# Altium schematic symbol library SL_Connectors.SchLib: 25 symbols
Pins are listed as number, name and electrical type; pins without a type are passive.

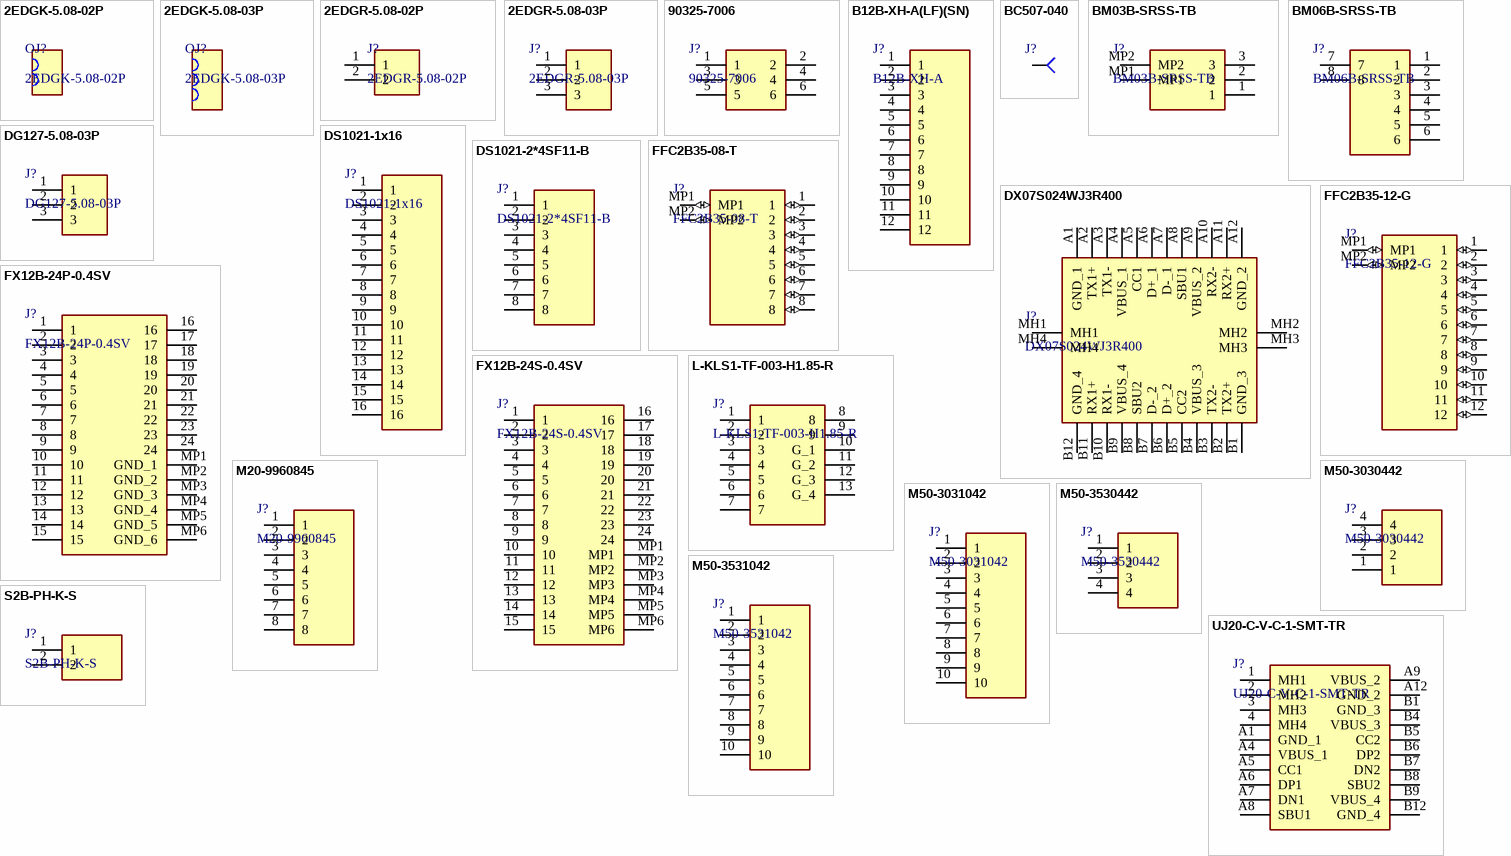
[diagram p0: symbols 2EDGK-5.08-02P to UJ20-C-V-C-1-SMT-TR]

## 2EDGK-5.08-02P
designator OJ?
Connector; Manufacturer_Name: Degson; Manufacturer_Part_Number: 2EDGR-5.08-02P-14-00AH; Datasheet Link: https://www.degson.com/index.php?a=downloadFile&id=5125094&name=%27ZmlsZTQ=%27&lang=en; Height: 8.82mm
footprint 2EDGK50802P

## 2EDGK-5.08-03P
designator OJ?  (net tie)
Connector; Manufacturer_Name: Degson; Manufacturer_Part_Number: 2EDGR-5.08-03P-16-00A(H); Datasheet Link: https://www.degson.com/index.php?a=downloadFile&id=5125094&name=%27ZmlsZTQ=%27&lang=en; Height: 8.82mm
footprint 2EDGK50803P

## 2EDGR-5.08-02P
designator J?
Connector; Manufacturer_Name: Degson; Manufacturer_Part_Number: 2EDGR-5.08-02P-14-00AH; Datasheet Link: https://www.degson.com/index.php?a=downloadFile&id=5125094&name=%27ZmlsZTQ=%27&lang=en; Height: 8.82mm
footprint 2EDGR50802P1400AH
pins: 1, 2

## 2EDGR-5.08-03P
designator J?
Connector; Manufacturer_Name: Degson; Manufacturer_Part_Number: 2EDGR-5.08-03P-16-00A(H); Datasheet Link: https://www.degson.com/index.php?a=downloadFile&id=5125094&name=%27ZmlsZTQ=%27&lang=en; Height: 8.82mm
footprint 2EDGR50803P1600AH
pins: 1, 2, 3

## 90325-7006
designator J?
Connector, Molex 6 Pin; Datasheet Link: https://www.molex.com/pdm_docs/sd/903257006_sd.pdf; Height: 6.6mm; Manufacturer_Name: Molex; Manufacturer_Part_Number: 90325-7006; Mouser Part Number: 538-90325-7006; Mouser Price/Stock: https://www.mouser.co.uk/ProductDetail/Molex/90325-7006?qs=WjPO6T6WDwuO89SxRUe02w%3D%3D
footprint 903257006
pins: 1, 2, 3, 4, 5, 6

## B12B-XH-A(LF)(SN)
designator J?, comment B12B-XH-A
Connector Header Through Hole 12 position 0.098 (2.50mm); MF: JST Sales; MP: B12B-XH-A(LF)(SN); SnapEDA_Link: https://www.snapeda.com/parts/B12B-XH-A(LF)(SN)/JST+Sales+America+Inc./view-part/?ref=snap; Package: None; Value: *; Check_prices: https://www.snapeda.com/parts/B12B-XH-A(LF)(SN)/JST+Sales+America+Inc./view-part/?ref=eda
footprint JST_B12B-XH-A(LF)(SN)
pins: 1, 2, 3, 4, 5, 6, 7, 8, 9, 10, 11, 12

## BC507-040
designator J?  (value not drawn)
Fuse Clip 5x20
footprint BC507-040
pins: 1

## BM03B-SRSS-TB
designator J?
Connector; Manufacturer_Name: JST (JAPAN SOLDERLESS TERMINALS); Datasheet Link: https://datasheet.datasheetarchive.com/originals/dk/DKDS-2/32971.pdf; Height: 4.25mm; Manufacturer_Part_Number: BM03B-SRSS-TB; Mouser Part Number: N/A; Mouser Price/Stock: https://www.mouser.co.uk/ProductDetail/JST/BM03B-SRSS-TB?qs=cIziFXvMxOVukqkiHi0bdg%3D%3D
footprint BM03BSRSSTB
pins: 1, 2, 3, MP1, MP2

## BM06B-SRSS-TB
designator J?
Connector; Manufacturer_Name: JST (JAPAN SOLDERLESS TERMINALS); Manufacturer_Part_Number: BM06B-SRSS-TB(LF)(SN); Datasheet Link: http://www.jst-mfg.com/product/pdf/eng/eSR.pdf; Height: 4.25mm; Mouser Part Number: N/A; Mouser Price/Stock: https://www.mouser.co.uk/ProductDetail/JST-Commercial/BM06B-SRSS-TBLFSN?qs=IKkN%2F947nfAcbKIXx%2F1kIg%3D%3D; Arrow Part Number: BM06B-SRSS-TB(LF)(SN); Arrow Price/Stock: https://www.arrow.com/en/products/bm06b-srss-tb-lf-sn/jst-manufacturing?region=europe
footprint BM06BSRSSTBLFSN
pins: 1, 2, 3, 4, 5, 6, 7, 8

## DG127-5.08-03P
designator J?
Connector; Manufacturer_Name: Degson; Datasheet Link: https://cdn-reichelt.de/documents/datenblatt/C151/DG127.pdf; Height: 10.4mm; Manufacturer_Part_Number: DG127-5.08-03P
footprint DG12750803P1400AH
pins: 1, 2, 3

## DS1021-1x16
designator J?
Connector, PLS-16; Manufacturer_Name: Connfly; Datasheet Link: https://static.chipdip.ru/lib/177/DOC040177951.pdf; Height: 2.5mm; Manufacturer_Part_Number: DS1021-1x16
footprint PLS-16
pins: 1, 2, 3, 4, 5, 6, 7, 8, 9, 10, 11, 12, 13, 14, 15, 16

## DS1021-2*4SF11-B
designator J?
Connector, PLD-8; Manufacturer_Name: Connfly; Datasheet Link: https://www.micros.com.pl/mediaserver/info-z%20l2x04s.pdf; Height: 2.64mm; Manufacturer_Part_Number: DS1021-2*4SF11-B
footprint PLD-8
pins: 1, 2, 3, 4, 5, 6, 7, 8

## DX07S024WJ3R400
designator J?
Connector, Type-C; Manufacturer_Name: JAE; Datasheet Link: https://www.jae.com/direct/topics/topics_file_download/topics_id=66513&ext_no=06&_lang=en&v=; Height: 10.2mm; Manufacturer_Part_Number: DX07S024WJ3R400; Mouser Part Number: 656-DX07S0024WJ3R400; Mouser Price/Stock: https://www.mouser.co.uk/ProductDetail/JAE-Electronics/DX07S024WJ3R400?qs=Ps1sUSMe7kmTGGC30IqfqQ%3D%3D
footprint DX07S024WJ3R400
pins: A1 GND_1, A2 TX1+, A3 TX1-, A4 VBUS_1, A5 CC1, A6 D+_1, A7 D-_1, A8 SBU1, A9 VBUS_2, A10 RX2-, A11 RX2+, A12 GND_2, B1 GND_3, B2 TX2+, B3 TX2-, B4 VBUS_3, B5 CC2, B6 D+_2, B7 D-_2, B8 SBU2, B9 VBUS_4, B10 RX1-, B11 RX1+, B12 GND_4, MH1, MH2, MH3, MH4

## FFC2B35-08-T
designator J?
0.5mm FFC Connector 8 Pin; MF: Global Connector Technology; SnapEDA_Link: https://www.snapeda.com/parts/FFC2B35-08-T/Global+Connector+Technology/view-part/?ref=snap; Package: None; Value: *; MP: FFC2B35-08-T; Check_prices: https://www.snapeda.com/parts/FFC2B35-08-T/Global+Connector+Technology/view-part/?ref=eda
footprint FFC2B3508T
pins: 1 (io), 2 (io), 3 (io), 4 (io), 5 (io), 6 (io), 7 (io), 8 (io), MP1 (io), MP2 (io)

## FFC2B35-12-G
designator J?
0.5mm FFC Connector 12 Pin; MF: Global Connector Technology; SnapEDA_Link: https://www.snapeda.com/parts/FFC2B35-12-G/Global+Connector+Technology/view-part/?ref=snap; Package: None; Value: *; MP: FFC2B35-12-G; Check_prices: https://www.snapeda.com/parts/FFC2B35-12-G/Global+Connector+Technology/view-part/?ref=eda
footprint FFC2B3512G
pins: 1 (io), 2 (io), 3 (io), 4 (io), 5 (io), 6 (io), 7 (io), 8 (io), 9 (io), 10 (io), 11 (io), 12 (io), MP1 (io), MP2 (io)

## FX12B-24P-0.4SV
designator J?
Connector; Manufacturer_Name: Hirose; Datasheet Link: http://www.mouser.com/datasheet/2/185/FX12_catalog-939378.pdf; Height: 1.34mm; Manufacturer_Part_Number: FX12B-24P-0.4SV; Mouser Part Number: 798-FX12B-24P-0.4SV; Mouser Price/Stock: https://www.mouser.co.uk/ProductDetail/Hirose-Connector/FX12B-24P-04SV/?qs=zOgoZG1CgI9Q2%252BTMioIpKQ%3D%3D
footprint FX12B24P04SV
pins: 1, 2, 3, 4, 5, 6, 7, 8, 9, 10, 11, 12, 13, 14, 15, 16, 17, 18, 19, 20, 21, 22, 23, 24, MP1 GND_1, MP2 GND_2, MP3 GND_3, MP4 GND_4, MP5 GND_5, MP6 GND_6

## FX12B-24S-0.4SV
designator J?
Connector; Manufacturer_Name: Hirose; Datasheet Link: https://www.hirose.com/en/product/document?clcode=CL0573-1006-3-00&productname=FX12B-24S-0.4SV&series=FX12&documenttype=2DDrawing&lang=en&documentid=0000990723; Height: 1.5mm; Manufacturer_Part_Number: FX12B-24S-0.4SV; Mouser Part Number: 798-FX12B-24S-0.4SV; Mouser Price/Stock: https://www.mouser.co.uk/ProductDetail/Hirose-Connector/FX12B-24S-04SV/?qs=zOgoZG1CgI%2FaIL5ajF06Hg%3D%3D
footprint FX12B24S04SV
pins: 1, 2, 3, 4, 5, 6, 7, 8, 9, 10, 11, 12, 13, 14, 15, 16, 17, 18, 19, 20, 21, 22, 23, 24, MP1, MP2, MP3, MP4, MP5, MP6

## L-KLS1-TF-003-H1.85-R
designator J?
Connector; Manufacturer_Name: KLS Electronic; Datasheet Link: https://img.ozdisan.com/ETicaret_Dosya/476392_7149645.pdf; Manufacturer_Part_Number: L-KLS1-TF-003-H1.85-R
footprint L-KLS1-TF-003-H1.85-R
pins: 1, 2, 3, 4, 5, 6, 7, 8, 9, 10 G_1, 11 G_2, 12 G_3, 13 G_4

## M20-9960845
designator J?
Connector, PLS-8R; Manufacturer_Name: Harwin; Datasheet Link: https://cdn.harwin.com/pdfs/M20-996.pdf; Height: 2.64mm; Manufacturer_Part_Number: M20-9960845; Mouser Part Number: 855-M20-9960845; Mouser Price/Stock: https://www.mouser.co.uk/ProductDetail/Harwin/M20-9960845?qs=Jph8NoUxIfV%252BcZmfOvCxhg%3D%3D
footprint PLS-8R-D
pins: 1, 2, 3, 4, 5, 6, 7, 8

## M50-3030442
designator J?
Connector, PBD1.27-1-4; Manufacturer_Name: Harwin; Datasheet Link: https://www.harwin.com/products/M50-3030442; Height: 4.55mm; Manufacturer_Part_Number: M50-3030442; Mouser Part Number: 855-M50-3030442; Mouser Price/Stock: https://www.mouser.co.uk/ProductDetail/Harwin/M50-3030442?qs=%252BdQmOuGyFcEwsianp4ZNQw%3D%3D
footprint M503030442
pins: 1, 2, 3, 4

## M50-3031042
designator J?
Connector, PBD1.27-1-10; Manufacturer_Name: Harwin; Datasheet Link: https://cdn.harwin.com/pdfs/M50-303.pdf; Height: 4.55mm; Manufacturer_Part_Number: M50-3031042; Mouser Part Number: 855-M50-3031042; Mouser Price/Stock: https://www.mouser.co.uk/ProductDetail/Harwin/M50-3031042?qs=%252BdQmOuGyFcGr7bDrWORUuA%3D%3D
footprint M503031042
pins: 1, 2, 3, 4, 5, 6, 7, 8, 9, 10

## M50-3530442
designator J?
Connector, PLL-4; Manufacturer_Name: Harwin; Datasheet Link: https://cdn.harwin.com/pdfs/M50-353.pdf; Height: 4.2mm; Manufacturer_Part_Number: M50-3530442; Mouser Part Number: 855-M50-3530442; Mouser Price/Stock: https://www.mouser.co.uk/ProductDetail/Harwin/M50-3530442?qs=%252BdQmOuGyFcH%2FaHqroeU8Uw%3D%3D
footprint HDRV4W40P0X127_1X4_508X210X420P
pins: 1, 2, 3, 4

## M50-3531042
designator J?
Connector, PLL-10; Manufacturer_Name: Harwin; Datasheet Link: https://cdn.harwin.com/pdfs/M50-353.pdf; Height: 4.2mm; Manufacturer_Part_Number: M50-3531042; Mouser Part Number: 855-M50-3531042; Mouser Price/Stock: https://www.mouser.co.uk/ProductDetail/Harwin/M50-3531042?qs=%252BdQmOuGyFcH8rYfQXggNhQ%3D%3D
footprint HDRV10W30P0X127_1X10_1270X210X420P
pins: 1, 2, 3, 4, 5, 6, 7, 8, 9, 10

## S2B-PH-K-S
designator J?
Connector; Manufacturer_Name: JST (JAPAN SOLDERLESS TERMINALS); Manufacturer_Part_Number: S2B-PH-K-S(LF)(SN); Datasheet Link: http://uk.rs-online.com/web/p/products/8201494; Height: 4.8mm; Mouser Part Number: 306-S2BPHKSLFSNPP; Mouser Price/Stock: https://www.mouser.co.uk/ProductDetail/JST-Commercial/S2B-PH-K-SLFSN?qs=cdbOS8ANM9A5Ie4gXeMjTA%3D%3D; Arrow Part Number: S2B-PH-K-S(LF)(SN); Arrow Price/Stock: https://www.arrow.com/en/products/s2b-ph-k-s-lf-sn/jst-manufacturing?utm_currency=USD&region=europe
footprint SHDRRA2W50P0X200_1X2_590X760X480P
pins: 1, 2

## UJ20-C-V-C-1-SMT-TR
designator J?
Connector, Type-C; Manufacturer_Name: Same Sky; Datasheet Link: https://www.sameskydevices.com/product/resource/supplyframepdf/uj20-c-v-c-1-smt-tr.pdf; Height: 6.65mm; Manufacturer_Part_Number: UJ20-C-V-C-1-SMT-TR; Mouser Part Number: 179-UJ20CVC1SMTTR; Mouser Price/Stock: https://www.mouser.co.uk/ProductDetail/Same-Sky/UJ20-C-V-C-1-SMT-TR?qs=i8QVZAFTkqRSXXSHLSIhtw%3D%3D; Arrow Part Number: UJ20-C-V-C-1-SMT-TR; Arrow Price/Stock: https://www.arrow.com/en/products/uj20-c-v-c-1-smt-tr/cui-devices?utm_currency=USD&region=nac
footprint UJ20CVC1SMTTR
pins: 1 MH1, 2 MH2, 3 MH3, 4 MH4, A1 GND_1, A4 VBUS_1, A5 CC1, A6 DP1, A7 DN1, A8 SBU1, A9 VBUS_2, A12 GND_2, B1 GND_3, B4 VBUS_3, B5 CC2, B6 DP2, B7 DN2, B8 SBU2, B9 VBUS_4, B12 GND_4